# EAGLE library part SKY65116 (library OSSIdonghee)
SKY65116: 390~500 MHz Linear Power Amplifier from http://www.skyworksinc.com Wideband frequency operation: 390–500 MHz High linearity: OIP3 43 dBm High efficiency: 40% PAE High gain: 35 dB P1 dB = 32.5 dBm Single DC supply: 3.6 V Internal RF match and bias circuits PA on/off voltage control Operating temperature -40 °C to +85 °C Please, refer to datasheet for PCB layout!!!!(vias and ground)
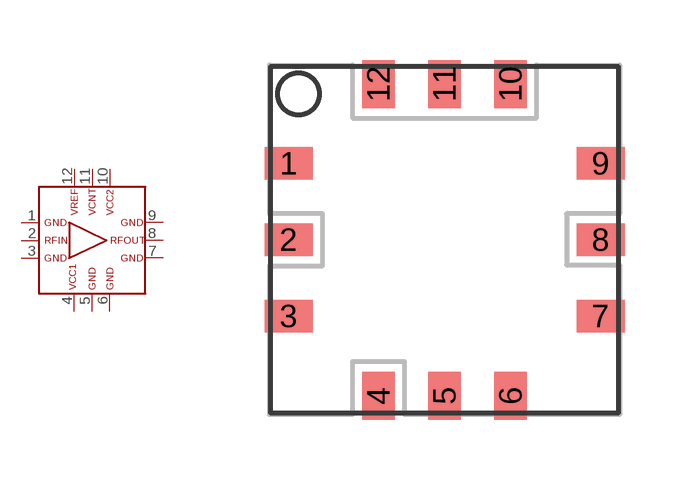
[diagram p3: symbol with the pads of SKY65116; footprint SKY65116]

Designator prefix U

## SKY65116  [SKY65116]
1  1  sup
2  2  in
3  3  sup
4  4  pwr
5  5  sup
6  6  sup
7  7  sup
8  8  out
9  9  sup
10  10  pwr
11  11  in
12  12  in

## Footprint SKY65116 (pad centres in mm)
please refere to sky65116 datasheet for detail guide of vias and pad placement
smd 1.2 x 0.81: 1 -3.9,1.91; 2 -3.9,0; 3 -3.9,-1.91; 7 3.9,-1.91; 8 3.9,0; 9 3.9,1.91
smd 0.81 x 1.2: 4 -1.65,-3.9; 5 0,-3.9; 6 1.65,-3.9; 10 1.65,3.9; 11 0,3.9; 12 -1.65,3.9